# Altium schematic symbol library conn-fuse-holder_0.Schlib: 1 symbol
Pins are listed as number, name and electrical type; pins without a type are passive.

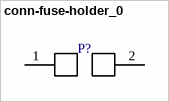
[diagram p0: symbol conn-fuse-holder_0]

## conn-fuse-holder_0
designator P?  (value not drawn)
Fuse Holder
pins: 1, 2